# Altium integrated library Infineon_Microcontroller.IntLib: 721 symbols (part 38 of 66)
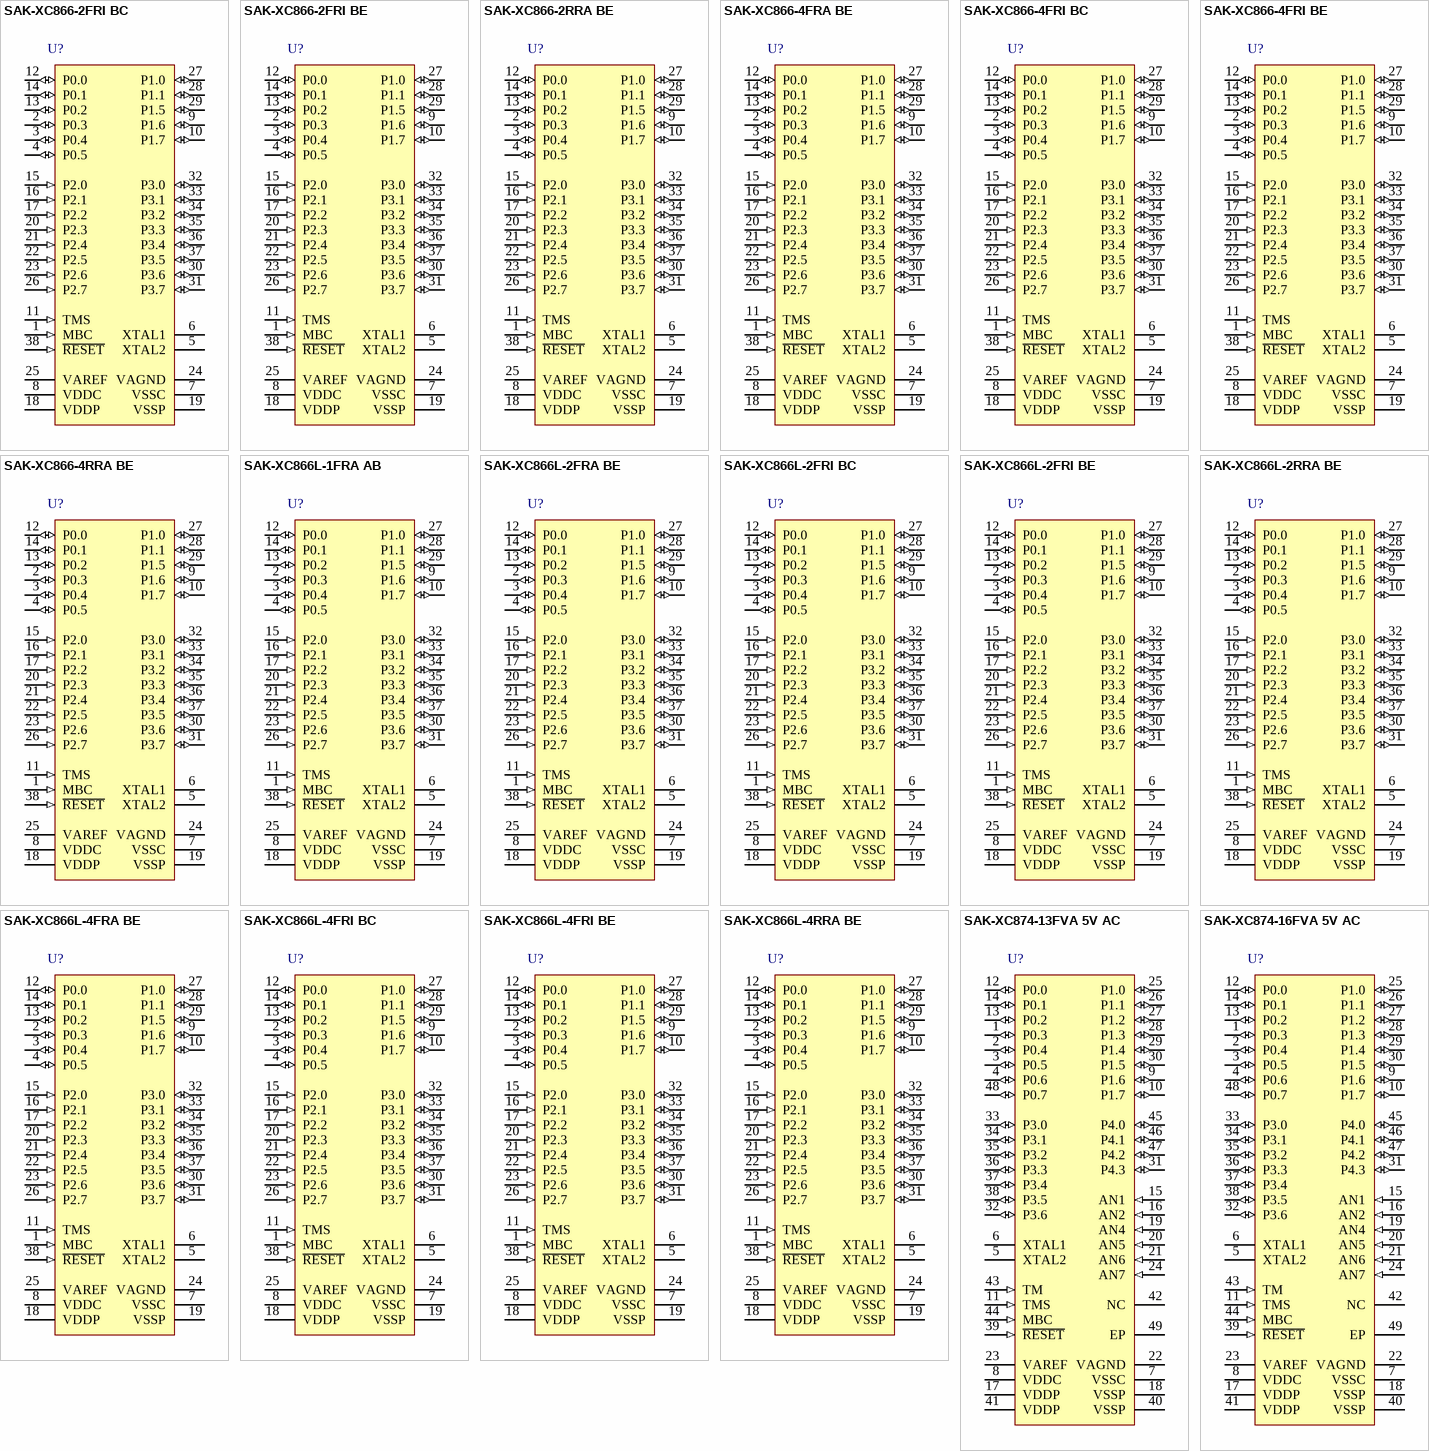
[diagram p155: symbols SAK-XC866-2FRI BC to SAK-XC874-16FVA 5V AC]

## SAK-XC874-13FVA 5V AC
designator U?
26.7 MHz XC800-Automotive MCU with 52 KByte Program Memory, 3 KByte SRAM, 5 V, PG-VQFN-48, Reel, Green; Manufacturer: Infineon; PartNumber: SAK-XC874-13FVA 5V AC; A / D input lines (incl. FADC): 8; CAN Nodes: 0; Digital I/O Lines: 39; DSP functionality (e.g MDU/MAC): TRUE; I/O Operation Voltages: 5 V; LIN BSL loader (for fast Flash programming): FALSE; Number of ADC Modules: 1; Power Modes: 4; Real Time Clock (RTC): FALSE; SRAM (incl. Cache): 3 KByte; Type of Memory: Flash; Type of Serial I/O Interfaces: UART(2), SCC(1); DatasheetVersion: Rev. 1.5; PackageVersion: Nov-10; PackageReference: PG-VQFN-48-22; PackageDescription: 48-Pin Plastic (Green) Very Thin Profile Quad Flat Non Leaded Package, Body 6.8 x 6.8 mm, Pitch 0.5 mm; DMA Channels: 0; E2PROM Emulation (Data-Flash): TRUE; Green: TRUE; Halogen-free: TRUE; Instruction width [bits]: 8; Max Clock Frequency: 26.7 MHz; On-chip clock generation: TRUE; On-chip Voltage Regulator: TRUE; Oscillator Watchdog: TRUE; Packing: Reel; Program Memory: 52 KByte; Serial I/O Interfaces: 0; Timed I/O Pins (PWM-Ch,CAPCOM): 0; Timer / Counter: 4; Watchdog Timer: TRUE; Mounting Technology: Surface Mount; ComponentLink1Description: Manufacturer URL; ComponentLink1URL: http://www.infineon.com/; ComponentLink2Description: Datasheet; ComponentLink2URL: http://www.infineon.com/dgdl/Microcontroller-XC87x-Data-Sheet-V15-infineon.pdf?folderId=db3a304412b407950112b40c497b0af6&fileId=db3a30432239cccd01231293d56908b1; ComponentLink3Description: Package Specification; ComponentLink3URL: http://www.infineon.com/dgdl/PG-VQFN-48-15%2C-19%2C-20%2C-22%2C-24%2C-48%2C-51%2C-52%2C-53%2C-54%2C-55%2C-56%2C-57-Package_Overview.pdf?folderId=db3a304319c6f18c0119e80a8f2559bf&fileId=db3a304319c6f18c011a0b8b18c33200
footprint INF-PG-VQFN-48-22_N (QFN, 48-Leads, Body 6.8x6.8mm, Pitch 0.5mm, Thermal Pad 5.2x5.2mm, IPC Medium Density)
footprint INF-PG-VQFN-48-22_L (QFN, 48-Leads, Body 6.8x6.8mm, Pitch 0.5mm, Thermal Pad 5.2x5.2mm, IPC High Density)
footprint INF-PG-VQFN-48-22_M (QFN, 48-Leads, Body 6.8x6.8mm, Pitch 0.5mm, Thermal Pad 5.2x5.2mm, IPC Low Density)
pins: 1 P0.3 (io), 2 P0.4 (io), 3 P0.5 (io), 4 P0.6 (io), 5 XTAL2 "External Oscillator Output (Feedback resistor required, normally NC)", 6 XTAL1 "External Oscillator Input (Feedback resistor required, normally NC)", 7 VSSC (power) "Core Supply Ground", 8 VDDC (power) "Core Supply Monitor (2.5 V)", 9 P1.6 (io), 10 P1.7 (io), 11 TMS (in) "JTAG Test Mode Select", 12 P0.0 (io), 13 P0.2 (io), 14 P0.1 (io), 15 AN1 (in) "Analog Input 1", 16 AN2 (in) "Analog Input 2", 17 VDDP (power) "I/O Port Supply (3.3 or 5.0 V) Also used by EVR and analog modules. All pins must be connected.", 18 VSSP (power) "I/O Ground All pins must be connected.", 19 AN4 (in) "Analog Input 4", 20 AN5 (in) "Analog Input 5", 21 AN6 (in) "Analog Input 6", 22 VAGND (power) "ADC Reference Ground", 23 VAREF (power) "ADC Reference Voltage", 24 AN7 (in) "Analog Input 7", 25 P1.0 (io), 26 P1.1 (io), 27 P1.2 (io), 28 P1.3 (io), 29 P1.4 (io), 30 P1.5 (io), 31 P4.3 (io), 32 P3.6 (io), 33 P3.0 (io), 34 P3.1 (io), 35 P3.2 (io), 36 P3.3 (io), 37 P3.4 (io), 38 P3.5 (io), 39 ~{RESET} (in) "Reset Input", 40 VSSP (power) "I/O Ground All pins must be connected.", 41 VDDP (power) "I/O Port Supply (3.3 or 5.0 V) Also used by EVR and analog modules. All pins must be connected.", 42 NC "No Connection", 43 TM (in) "Test Mode (External pull down device required)", 44 MBC (in) "Monitor & BootStrap Loader Control", 45 P4.0 (io), 46 P4.1 (io), 47 P4.2 (io), 48 P0.7 (io), 49 EP "Exposed Pad"

## SAK-XC874-16FVA 5V AC
designator U?
26.7 MHz XC800-Automotive MCU with 64 KByte Program Memory, 3 KByte SRAM, 5 V, PG-VQFN-48, Reel, Green; Manufacturer: Infineon; PartNumber: SAK-XC874-16FVA 5V AC; A / D input lines (incl. FADC): 8; CAN Nodes: 0; Digital I/O Lines: 39; DSP functionality (e.g MDU/MAC): TRUE; I/O Operation Voltages: 5 V; LIN BSL loader (for fast Flash programming): FALSE; Number of ADC Modules: 1; Power Modes: 4; Real Time Clock (RTC): FALSE; SRAM (incl. Cache): 3 KByte; Type of Memory: Flash; Type of Serial I/O Interfaces: UART(2), SCC(1); DatasheetVersion: Rev. 1.5; PackageVersion: Nov-10; PackageReference: PG-VQFN-48-22; PackageDescription: 48-Pin Plastic (Green) Very Thin Profile Quad Flat Non Leaded Package, Body 6.8 x 6.8 mm, Pitch 0.5 mm; DMA Channels: 0; E2PROM Emulation (Data-Flash): TRUE; Green: TRUE; Halogen-free: TRUE; Instruction width [bits]: 8; Max Clock Frequency: 26.7 MHz; On-chip clock generation: TRUE; On-chip Voltage Regulator: TRUE; Oscillator Watchdog: TRUE; Packing: Reel; Program Memory: 64 KByte; Serial I/O Interfaces: 0; Timed I/O Pins (PWM-Ch,CAPCOM): 0; Timer / Counter: 4; Watchdog Timer: TRUE; Mounting Technology: Surface Mount; ComponentLink1Description: Manufacturer URL; ComponentLink1URL: http://www.infineon.com/; ComponentLink2Description: Datasheet; ComponentLink2URL: http://www.infineon.com/dgdl/Microcontroller-XC87x-Data-Sheet-V15-infineon.pdf?folderId=db3a304412b407950112b40c497b0af6&fileId=db3a30432239cccd01231293d56908b1; ComponentLink3Description: Package Specification; ComponentLink3URL: http://www.infineon.com/dgdl/PG-VQFN-48-15%2C-19%2C-20%2C-22%2C-24%2C-48%2C-51%2C-52%2C-53%2C-54%2C-55%2C-56%2C-57-Package_Overview.pdf?folderId=db3a304319c6f18c0119e80a8f2559bf&fileId=db3a304319c6f18c011a0b8b18c33200
footprint INF-PG-VQFN-48-22_N (QFN, 48-Leads, Body 6.8x6.8mm, Pitch 0.5mm, Thermal Pad 5.2x5.2mm, IPC Medium Density)
footprint INF-PG-VQFN-48-22_L (QFN, 48-Leads, Body 6.8x6.8mm, Pitch 0.5mm, Thermal Pad 5.2x5.2mm, IPC High Density)
footprint INF-PG-VQFN-48-22_M (QFN, 48-Leads, Body 6.8x6.8mm, Pitch 0.5mm, Thermal Pad 5.2x5.2mm, IPC Low Density)
pins: 1 P0.3 (io), 2 P0.4 (io), 3 P0.5 (io), 4 P0.6 (io), 5 XTAL2 "External Oscillator Output (Feedback resistor required, normally NC)", 6 XTAL1 "External Oscillator Input (Feedback resistor required, normally NC)", 7 VSSC (power) "Core Supply Ground", 8 VDDC (power) "Core Supply Monitor (2.5 V)", 9 P1.6 (io), 10 P1.7 (io), 11 TMS (in) "JTAG Test Mode Select", 12 P0.0 (io), 13 P0.2 (io), 14 P0.1 (io), 15 AN1 (in) "Analog Input 1", 16 AN2 (in) "Analog Input 2", 17 VDDP (power) "I/O Port Supply (3.3 or 5.0 V) Also used by EVR and analog modules. All pins must be connected.", 18 VSSP (power) "I/O Ground All pins must be connected.", 19 AN4 (in) "Analog Input 4", 20 AN5 (in) "Analog Input 5", 21 AN6 (in) "Analog Input 6", 22 VAGND (power) "ADC Reference Ground", 23 VAREF (power) "ADC Reference Voltage", 24 AN7 (in) "Analog Input 7", 25 P1.0 (io), 26 P1.1 (io), 27 P1.2 (io), 28 P1.3 (io), 29 P1.4 (io), 30 P1.5 (io), 31 P4.3 (io), 32 P3.6 (io), 33 P3.0 (io), 34 P3.1 (io), 35 P3.2 (io), 36 P3.3 (io), 37 P3.4 (io), 38 P3.5 (io), 39 ~{RESET} (in) "Reset Input", 40 VSSP (power) "I/O Ground All pins must be connected.", 41 VDDP (power) "I/O Port Supply (3.3 or 5.0 V) Also used by EVR and analog modules. All pins must be connected.", 42 NC "No Connection", 43 TM (in) "Test Mode (External pull down device required)", 44 MBC (in) "Monitor & BootStrap Loader Control", 45 P4.0 (io), 46 P4.1 (io), 47 P4.2 (io), 48 P0.7 (io), 49 EP "Exposed Pad"

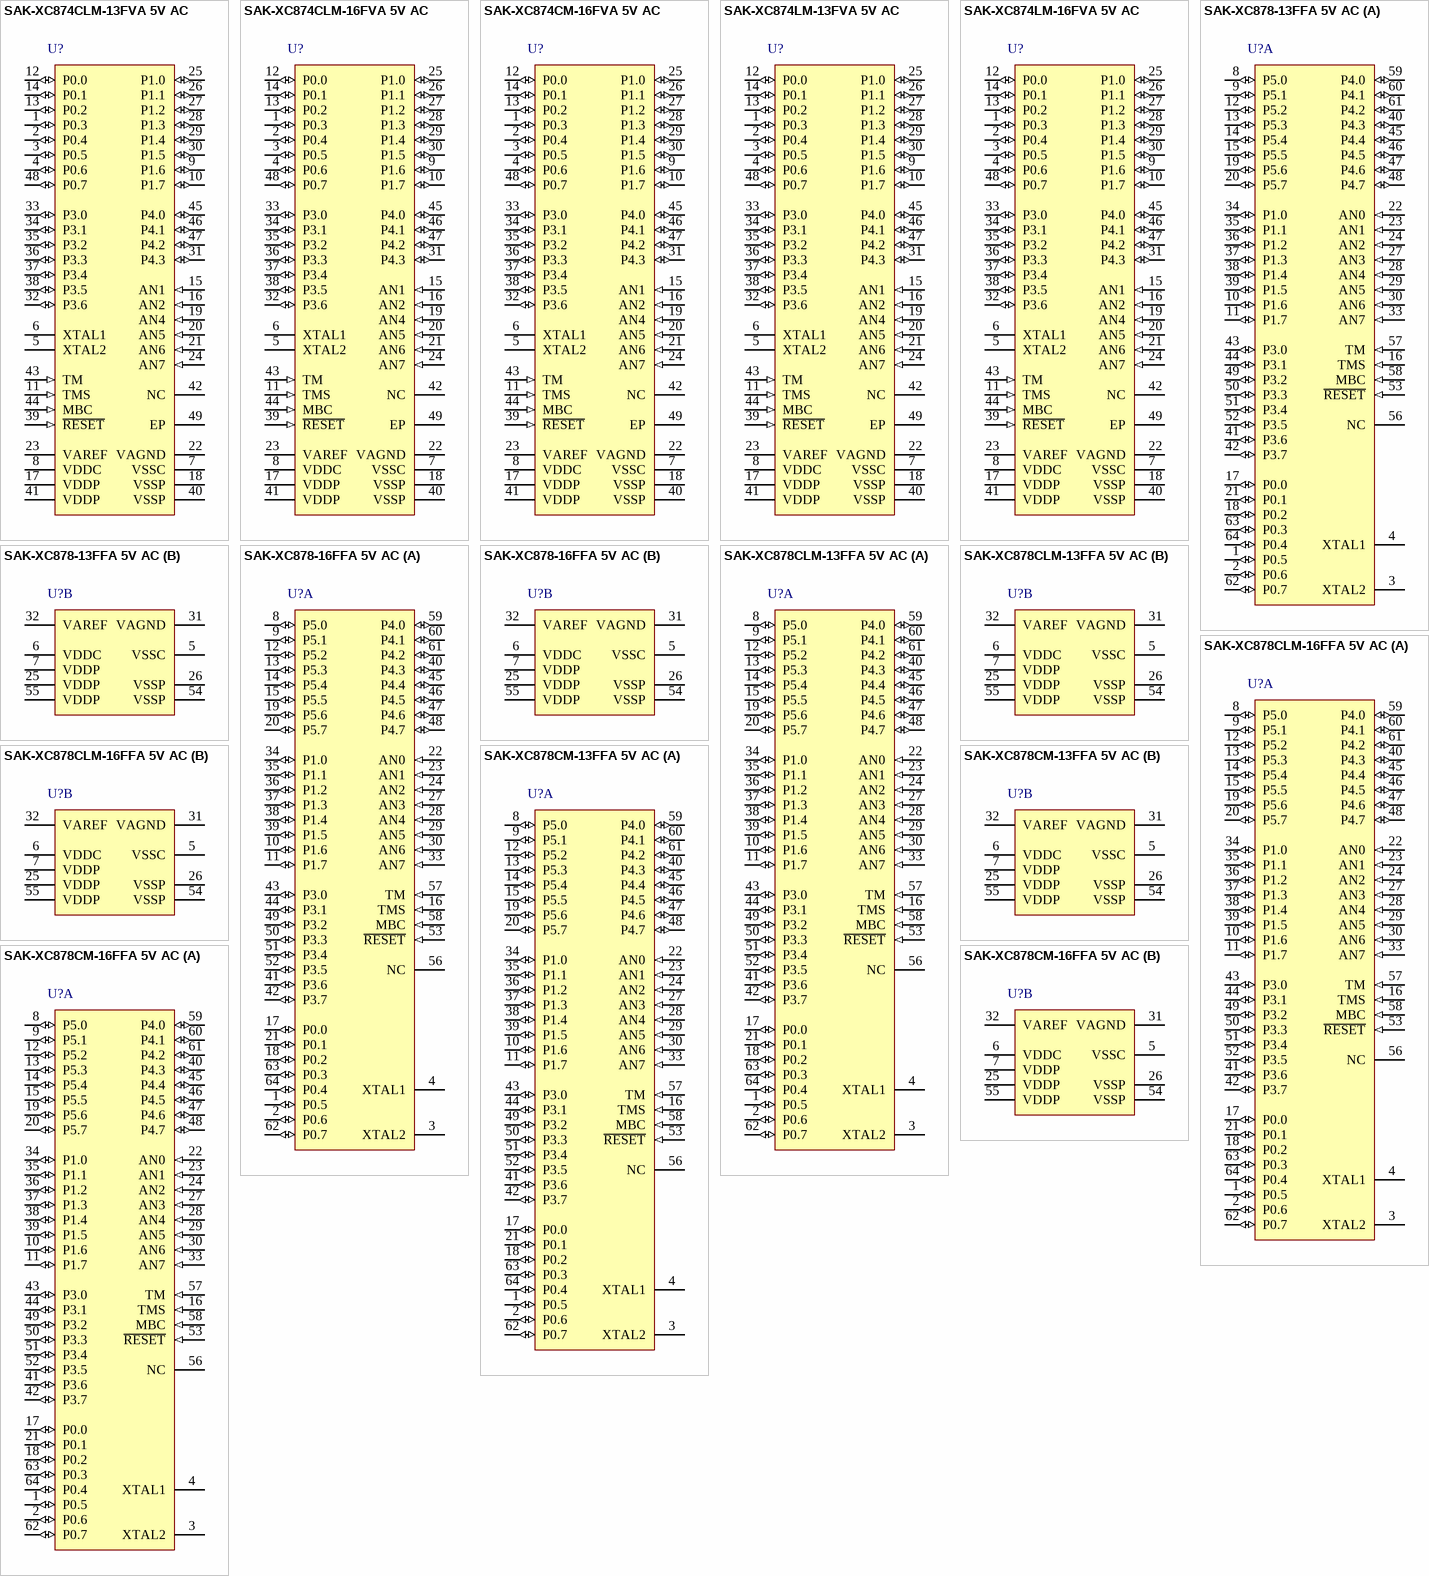
[diagram p68: symbols SAK-XC874CLM-13FVA 5V AC to SAK-XC878CM-16FFA 5V AC]

## SAK-XC874CLM-13FVA 5V AC
designator U?
26.7 MHz XC800-Automotive MCU with 52 KByte Program Memory, 3 KByte SRAM, 5 V, PG-VQFN-48, Green; Manufacturer: Infineon; PartNumber: SAK-XC874CLM-13FVA 5V AC; A / D input lines (incl. FADC): 8; CAN Nodes: 2; Digital I/O Lines: 39; DMA Channels: 0; DSP functionality (e.g MDU/MAC): TRUE; I/O Operation Voltages: 5 V; LIN BSL loader (for fast Flash programming): FALSE; Number of ADC Modules: 1; Power Modes: 4; Real Time Clock (RTC): FALSE; SRAM (incl. Cache): 3 KByte; Type of Memory: Flash; Type of Serial I/O Interfaces: UART(2), SCC(1); DatasheetVersion: Rev. 1.5; PackageVersion: Nov-10; PackageReference: PG-VQFN-48-22; PackageDescription: 48-Pin Plastic (Green) Very Thin Profile Quad Flat Non Leaded Package, Body 6.8 x 6.8 mm, Pitch 0.5 mm; E2PROM Emulation (Data-Flash): TRUE; Green: TRUE; Halogen-free: available; Instruction width [bits]: 8; Max Clock Frequency: 26.7 MHz; On-chip clock generation: TRUE; On-chip Voltage Regulator: TRUE; Oscillator Watchdog: TRUE; Program Memory: 52 KByte; Serial I/O Interfaces: 0; Timed I/O Pins (PWM-Ch,CAPCOM): 0; Timer / Counter: 4; Watchdog Timer: TRUE; Mounting Technology: Surface Mount; ComponentLink1Description: Manufacturer URL; ComponentLink1URL: http://www.infineon.com/; ComponentLink2Description: Datasheet; ComponentLink2URL: http://www.infineon.com/dgdl/Microcontroller-XC87x-Data-Sheet-V15-infineon.pdf?folderId=db3a304412b407950112b40c497b0af6&fileId=db3a30432239cccd01231293d56908b1; ComponentLink3Description: Package Specification; ComponentLink3URL: http://www.infineon.com/dgdl/PG-VQFN-48-15%2C-19%2C-20%2C-22%2C-24%2C-48%2C-51%2C-52%2C-53%2C-54%2C-55%2C-56%2C-57-Package_Overview.pdf?folderId=db3a304319c6f18c0119e80a8f2559bf&fileId=db3a304319c6f18c011a0b8b18c33200
footprint INF-PG-VQFN-48-22_N (QFN, 48-Leads, Body 6.8x6.8mm, Pitch 0.5mm, Thermal Pad 5.2x5.2mm, IPC Medium Density)
footprint INF-PG-VQFN-48-22_L (QFN, 48-Leads, Body 6.8x6.8mm, Pitch 0.5mm, Thermal Pad 5.2x5.2mm, IPC High Density)
footprint INF-PG-VQFN-48-22_M (QFN, 48-Leads, Body 6.8x6.8mm, Pitch 0.5mm, Thermal Pad 5.2x5.2mm, IPC Low Density)
pins: 1 P0.3 (io), 2 P0.4 (io), 3 P0.5 (io), 4 P0.6 (io), 5 XTAL2 "External Oscillator Output (Feedback resistor required, normally NC)", 6 XTAL1 "External Oscillator Input (Feedback resistor required, normally NC)", 7 VSSC (power) "Core Supply Ground", 8 VDDC (power) "Core Supply Monitor (2.5 V)", 9 P1.6 (io), 10 P1.7 (io), 11 TMS (in) "JTAG Test Mode Select", 12 P0.0 (io), 13 P0.2 (io), 14 P0.1 (io), 15 AN1 (in) "Analog Input 1", 16 AN2 (in) "Analog Input 2", 17 VDDP (power) "I/O Port Supply (3.3 or 5.0 V) Also used by EVR and analog modules. All pins must be connected.", 18 VSSP (power) "I/O Ground All pins must be connected.", 19 AN4 (in) "Analog Input 4", 20 AN5 (in) "Analog Input 5", 21 AN6 (in) "Analog Input 6", 22 VAGND (power) "ADC Reference Ground", 23 VAREF (power) "ADC Reference Voltage", 24 AN7 (in) "Analog Input 7", 25 P1.0 (io), 26 P1.1 (io), 27 P1.2 (io), 28 P1.3 (io), 29 P1.4 (io), 30 P1.5 (io), 31 P4.3 (io), 32 P3.6 (io), 33 P3.0 (io), 34 P3.1 (io), 35 P3.2 (io), 36 P3.3 (io), 37 P3.4 (io), 38 P3.5 (io), 39 ~{RESET} (in) "Reset Input", 40 VSSP (power) "I/O Ground All pins must be connected.", 41 VDDP (power) "I/O Port Supply (3.3 or 5.0 V) Also used by EVR and analog modules. All pins must be connected.", 42 NC "No Connection", 43 TM (in) "Test Mode (External pull down device required)", 44 MBC (in) "Monitor & BootStrap Loader Control", 45 P4.0 (io), 46 P4.1 (io), 47 P4.2 (io), 48 P0.7 (io), 49 EP "Exposed Pad"

## SAK-XC874CLM-16FVA 5V AC
designator U?
26.7 MHz XC800-Automotive MCU with 64 KByte Program Memory, 3 KByte SRAM, 5 V, PG-VQFN-48, Reel, Green; Manufacturer: Infineon; PartNumber: SAK-XC874CLM-16FVA 5V AC; A / D input lines (incl. FADC): 8; CAN Nodes: 2; Digital I/O Lines: 39; DMA Channels: 0; DSP functionality (e.g MDU/MAC): TRUE; I/O Operation Voltages: 5 V; LIN BSL loader (for fast Flash programming): FALSE; Number of ADC Modules: 1; Power Modes: 4; Real Time Clock (RTC): FALSE; SRAM (incl. Cache): 3 KByte; Type of Memory: Flash; Type of Serial I/O Interfaces: UART(2), SCC(1); DatasheetVersion: Rev. 1.5; PackageVersion: Nov-10; PackageReference: PG-VQFN-48-22; PackageDescription: 48-Pin Plastic (Green) Very Thin Profile Quad Flat Non Leaded Package, Body 6.8 x 6.8 mm, Pitch 0.5 mm; Supplier 1: Digi-Key; Supplier Part Number 1: SAK-XC874CLM-16FVA 5V AC-ND; E2PROM Emulation (Data-Flash): TRUE; Green: TRUE; Halogen-free: TRUE; Instruction width [bits]: 8; Max Clock Frequency: 26.7 MHz; On-chip clock generation: TRUE; On-chip Voltage Regulator: TRUE; Oscillator Watchdog: TRUE; Packing: Reel; Program Memory: 64 KByte; Serial I/O Interfaces: 0; Timed I/O Pins (PWM-Ch,CAPCOM): 0; Timer / Counter: 4; Watchdog Timer: TRUE; Mounting Technology: Surface Mount; ComponentLink1Description: Manufacturer URL; ComponentLink1URL: http://www.infineon.com/; ComponentLink2Description: Datasheet; ComponentLink2URL: http://www.infineon.com/dgdl/Microcontroller-XC87x-Data-Sheet-V15-infineon.pdf?folderId=db3a304412b407950112b40c497b0af6&fileId=db3a30432239cccd01231293d56908b1; ComponentLink3Description: Package Specification; ComponentLink3URL: http://www.infineon.com/dgdl/PG-VQFN-48-15%2C-19%2C-20%2C-22%2C-24%2C-48%2C-51%2C-52%2C-53%2C-54%2C-55%2C-56%2C-57-Package_Overview.pdf?folderId=db3a304319c6f18c0119e80a8f2559bf&fileId=db3a304319c6f18c011a0b8b18c33200
footprint INF-PG-VQFN-48-22_N (QFN, 48-Leads, Body 6.8x6.8mm, Pitch 0.5mm, Thermal Pad 5.2x5.2mm, IPC Medium Density)
footprint INF-PG-VQFN-48-22_L (QFN, 48-Leads, Body 6.8x6.8mm, Pitch 0.5mm, Thermal Pad 5.2x5.2mm, IPC High Density)
footprint INF-PG-VQFN-48-22_M (QFN, 48-Leads, Body 6.8x6.8mm, Pitch 0.5mm, Thermal Pad 5.2x5.2mm, IPC Low Density)
pins: 1 P0.3 (io), 2 P0.4 (io), 3 P0.5 (io), 4 P0.6 (io), 5 XTAL2 "External Oscillator Output (Feedback resistor required, normally NC)", 6 XTAL1 "External Oscillator Input (Feedback resistor required, normally NC)", 7 VSSC (power) "Core Supply Ground", 8 VDDC (power) "Core Supply Monitor (2.5 V)", 9 P1.6 (io), 10 P1.7 (io), 11 TMS (in) "JTAG Test Mode Select", 12 P0.0 (io), 13 P0.2 (io), 14 P0.1 (io), 15 AN1 (in) "Analog Input 1", 16 AN2 (in) "Analog Input 2", 17 VDDP (power) "I/O Port Supply (3.3 or 5.0 V) Also used by EVR and analog modules. All pins must be connected.", 18 VSSP (power) "I/O Ground All pins must be connected.", 19 AN4 (in) "Analog Input 4", 20 AN5 (in) "Analog Input 5", 21 AN6 (in) "Analog Input 6", 22 VAGND (power) "ADC Reference Ground", 23 VAREF (power) "ADC Reference Voltage", 24 AN7 (in) "Analog Input 7", 25 P1.0 (io), 26 P1.1 (io), 27 P1.2 (io), 28 P1.3 (io), 29 P1.4 (io), 30 P1.5 (io), 31 P4.3 (io), 32 P3.6 (io), 33 P3.0 (io), 34 P3.1 (io), 35 P3.2 (io), 36 P3.3 (io), 37 P3.4 (io), 38 P3.5 (io), 39 ~{RESET} (in) "Reset Input", 40 VSSP (power) "I/O Ground All pins must be connected.", 41 VDDP (power) "I/O Port Supply (3.3 or 5.0 V) Also used by EVR and analog modules. All pins must be connected.", 42 NC "No Connection", 43 TM (in) "Test Mode (External pull down device required)", 44 MBC (in) "Monitor & BootStrap Loader Control", 45 P4.0 (io), 46 P4.1 (io), 47 P4.2 (io), 48 P0.7 (io), 49 EP "Exposed Pad"

## SAK-XC874CM-16FVA 5V AC
designator U?
26.7 MHz XC800-Automotive MCU with 64 KByte Program Memory, 3 KByte SRAM, 5 V, PG-VQFN-48, Reel, Green; Manufacturer: Infineon; PartNumber: SAK-XC874CM-16FVA 5V AC; A / D input lines (incl. FADC): 8; CAN Nodes: 2; Digital I/O Lines: 39; DMA Channels: 0; DSP functionality (e.g MDU/MAC): TRUE; I/O Operation Voltages: 5 V; LIN BSL loader (for fast Flash programming): FALSE; Number of ADC Modules: 1; Power Modes: 4; Real Time Clock (RTC): FALSE; SRAM (incl. Cache): 3 KByte; Type of Memory: Flash; Type of Serial I/O Interfaces: UART(2), SCC(1); DatasheetVersion: Rev. 1.5; PackageVersion: Nov-10; PackageReference: PG-VQFN-48-22; PackageDescription: 48-Pin Plastic (Green) Very Thin Profile Quad Flat Non Leaded Package, Body 6.8 x 6.8 mm, Pitch 0.5 mm; E2PROM Emulation (Data-Flash): TRUE; Green: TRUE; Halogen-free: TRUE; Instruction width [bits]: 8; Max Clock Frequency: 26.7 MHz; On-chip clock generation: TRUE; On-chip Voltage Regulator: TRUE; Oscillator Watchdog: TRUE; Packing: Reel; Program Memory: 64 KByte; Serial I/O Interfaces: 0; Timed I/O Pins (PWM-Ch,CAPCOM): 0; Timer / Counter: 4; Watchdog Timer: TRUE; Mounting Technology: Surface Mount; ComponentLink1Description: Manufacturer URL; ComponentLink1URL: http://www.infineon.com/; ComponentLink2Description: Datasheet; ComponentLink2URL: http://www.infineon.com/dgdl/Microcontroller-XC87x-Data-Sheet-V15-infineon.pdf?folderId=db3a304412b407950112b40c497b0af6&fileId=db3a30432239cccd01231293d56908b1; ComponentLink3Description: Package Specification; ComponentLink3URL: http://www.infineon.com/dgdl/PG-VQFN-48-15%2C-19%2C-20%2C-22%2C-24%2C-48%2C-51%2C-52%2C-53%2C-54%2C-55%2C-56%2C-57-Package_Overview.pdf?folderId=db3a304319c6f18c0119e80a8f2559bf&fileId=db3a304319c6f18c011a0b8b18c33200
footprint INF-PG-VQFN-48-22_N (QFN, 48-Leads, Body 6.8x6.8mm, Pitch 0.5mm, Thermal Pad 5.2x5.2mm, IPC Medium Density)
footprint INF-PG-VQFN-48-22_L (QFN, 48-Leads, Body 6.8x6.8mm, Pitch 0.5mm, Thermal Pad 5.2x5.2mm, IPC High Density)
footprint INF-PG-VQFN-48-22_M (QFN, 48-Leads, Body 6.8x6.8mm, Pitch 0.5mm, Thermal Pad 5.2x5.2mm, IPC Low Density)
pins: 1 P0.3 (io), 2 P0.4 (io), 3 P0.5 (io), 4 P0.6 (io), 5 XTAL2 "External Oscillator Output (Feedback resistor required, normally NC)", 6 XTAL1 "External Oscillator Input (Feedback resistor required, normally NC)", 7 VSSC (power) "Core Supply Ground", 8 VDDC (power) "Core Supply Monitor (2.5 V)", 9 P1.6 (io), 10 P1.7 (io), 11 TMS (in) "JTAG Test Mode Select", 12 P0.0 (io), 13 P0.2 (io), 14 P0.1 (io), 15 AN1 (in) "Analog Input 1", 16 AN2 (in) "Analog Input 2", 17 VDDP (power) "I/O Port Supply (3.3 or 5.0 V) Also used by EVR and analog modules. All pins must be connected.", 18 VSSP (power) "I/O Ground All pins must be connected.", 19 AN4 (in) "Analog Input 4", 20 AN5 (in) "Analog Input 5", 21 AN6 (in) "Analog Input 6", 22 VAGND (power) "ADC Reference Ground", 23 VAREF (power) "ADC Reference Voltage", 24 AN7 (in) "Analog Input 7", 25 P1.0 (io), 26 P1.1 (io), 27 P1.2 (io), 28 P1.3 (io), 29 P1.4 (io), 30 P1.5 (io), 31 P4.3 (io), 32 P3.6 (io), 33 P3.0 (io), 34 P3.1 (io), 35 P3.2 (io), 36 P3.3 (io), 37 P3.4 (io), 38 P3.5 (io), 39 ~{RESET} (in) "Reset Input", 40 VSSP (power) "I/O Ground All pins must be connected.", 41 VDDP (power) "I/O Port Supply (3.3 or 5.0 V) Also used by EVR and analog modules. All pins must be connected.", 42 NC "No Connection", 43 TM (in) "Test Mode (External pull down device required)", 44 MBC (in) "Monitor & BootStrap Loader Control", 45 P4.0 (io), 46 P4.1 (io), 47 P4.2 (io), 48 P0.7 (io), 49 EP "Exposed Pad"

## SAK-XC874LM-13FVA 5V AC
designator U?
26.7 MHz XC800-Automotive MCU with 52 KByte Program Memory, 3 KByte SRAM, 5 V, PG-VQFN-48, Reel, Green; Manufacturer: Infineon; PartNumber: SAK-XC874LM-13FVA 5V AC; A / D input lines (incl. FADC): 8; CAN Nodes: 0; Digital I/O Lines: 39; DSP functionality (e.g MDU/MAC): TRUE; I/O Operation Voltages: 5 V; LIN BSL loader (for fast Flash programming): FALSE; Number of ADC Modules: 1; Power Modes: 4; Real Time Clock (RTC): FALSE; SRAM (incl. Cache): 3 KByte; Type of Memory: Flash; Type of Serial I/O Interfaces: UART(2), SCC(1); DatasheetVersion: Rev. 1.5; PackageVersion: Nov-10; PackageReference: PG-VQFN-48-22; PackageDescription: 48-Pin Plastic (Green) Very Thin Profile Quad Flat Non Leaded Package, Body 6.8 x 6.8 mm, Pitch 0.5 mm; DMA Channels: 0; E2PROM Emulation (Data-Flash): TRUE; Green: TRUE; Halogen-free: TRUE; Instruction width [bits]: 8; Max Clock Frequency: 26.7 MHz; On-chip clock generation: TRUE; On-chip Voltage Regulator: TRUE; Oscillator Watchdog: TRUE; Packing: Reel; Program Memory: 52 KByte; Serial I/O Interfaces: 0; Timed I/O Pins (PWM-Ch,CAPCOM): 0; Timer / Counter: 4; Watchdog Timer: TRUE; Mounting Technology: Surface Mount; ComponentLink1Description: Manufacturer URL; ComponentLink1URL: http://www.infineon.com/; ComponentLink2Description: Datasheet; ComponentLink2URL: http://www.infineon.com/dgdl/Microcontroller-XC87x-Data-Sheet-V15-infineon.pdf?folderId=db3a304412b407950112b40c497b0af6&fileId=db3a30432239cccd01231293d56908b1; ComponentLink3Description: Package Specification; ComponentLink3URL: http://www.infineon.com/dgdl/PG-VQFN-48-15%2C-19%2C-20%2C-22%2C-24%2C-48%2C-51%2C-52%2C-53%2C-54%2C-55%2C-56%2C-57-Package_Overview.pdf?folderId=db3a304319c6f18c0119e80a8f2559bf&fileId=db3a304319c6f18c011a0b8b18c33200
footprint INF-PG-VQFN-48-22_N (QFN, 48-Leads, Body 6.8x6.8mm, Pitch 0.5mm, Thermal Pad 5.2x5.2mm, IPC Medium Density)
footprint INF-PG-VQFN-48-22_L (QFN, 48-Leads, Body 6.8x6.8mm, Pitch 0.5mm, Thermal Pad 5.2x5.2mm, IPC High Density)
footprint INF-PG-VQFN-48-22_M (QFN, 48-Leads, Body 6.8x6.8mm, Pitch 0.5mm, Thermal Pad 5.2x5.2mm, IPC Low Density)
pins: 1 P0.3 (io), 2 P0.4 (io), 3 P0.5 (io), 4 P0.6 (io), 5 XTAL2 "External Oscillator Output (Feedback resistor required, normally NC)", 6 XTAL1 "External Oscillator Input (Feedback resistor required, normally NC)", 7 VSSC (power) "Core Supply Ground", 8 VDDC (power) "Core Supply Monitor (2.5 V)", 9 P1.6 (io), 10 P1.7 (io), 11 TMS (in) "JTAG Test Mode Select", 12 P0.0 (io), 13 P0.2 (io), 14 P0.1 (io), 15 AN1 (in) "Analog Input 1", 16 AN2 (in) "Analog Input 2", 17 VDDP (power) "I/O Port Supply (3.3 or 5.0 V) Also used by EVR and analog modules. All pins must be connected.", 18 VSSP (power) "I/O Ground All pins must be connected.", 19 AN4 (in) "Analog Input 4", 20 AN5 (in) "Analog Input 5", 21 AN6 (in) "Analog Input 6", 22 VAGND (power) "ADC Reference Ground", 23 VAREF (power) "ADC Reference Voltage", 24 AN7 (in) "Analog Input 7", 25 P1.0 (io), 26 P1.1 (io), 27 P1.2 (io), 28 P1.3 (io), 29 P1.4 (io), 30 P1.5 (io), 31 P4.3 (io), 32 P3.6 (io), 33 P3.0 (io), 34 P3.1 (io), 35 P3.2 (io), 36 P3.3 (io), 37 P3.4 (io), 38 P3.5 (io), 39 ~{RESET} (in) "Reset Input", 40 VSSP (power) "I/O Ground All pins must be connected.", 41 VDDP (power) "I/O Port Supply (3.3 or 5.0 V) Also used by EVR and analog modules. All pins must be connected.", 42 NC "No Connection", 43 TM (in) "Test Mode (External pull down device required)", 44 MBC (in) "Monitor & BootStrap Loader Control", 45 P4.0 (io), 46 P4.1 (io), 47 P4.2 (io), 48 P0.7 (io), 49 EP "Exposed Pad"

## SAK-XC874LM-16FVA 5V AC
designator U?
26.7 MHz XC800-Automotive MCU with 64 KByte Program Memory, 3 KByte SRAM, 5 V, PG-VQFN-48, Reel, Green; Manufacturer: Infineon; PartNumber: SAK-XC874LM-16FVA 5V AC; A / D input lines (incl. FADC): 8; CAN Nodes: 0; Digital I/O Lines: 39; DSP functionality (e.g MDU/MAC): TRUE; I/O Operation Voltages: 5 V; LIN BSL loader (for fast Flash programming): FALSE; Number of ADC Modules: 1; Power Modes: 4; Real Time Clock (RTC): FALSE; SRAM (incl. Cache): 3 KByte; Type of Memory: Flash; Type of Serial I/O Interfaces: UART(2), SCC(1); DatasheetVersion: Rev. 1.5; PackageVersion: Nov-10; PackageReference: PG-VQFN-48-22; PackageDescription: 48-Pin Plastic (Green) Very Thin Profile Quad Flat Non Leaded Package, Body 6.8 x 6.8 mm, Pitch 0.5 mm; Supplier 1: Digi-Key; Supplier Part Number 1: SAK-XC874LM-16FVA 5V AC-ND; DMA Channels: 0; E2PROM Emulation (Data-Flash): TRUE; Green: TRUE; Halogen-free: TRUE; Instruction width [bits]: 8; Max Clock Frequency: 26.7 MHz; On-chip clock generation: TRUE; On-chip Voltage Regulator: TRUE; Oscillator Watchdog: TRUE; Packing: Reel; Program Memory: 64 KByte; Serial I/O Interfaces: 0; Timed I/O Pins (PWM-Ch,CAPCOM): 0; Timer / Counter: 4; Watchdog Timer: TRUE; Mounting Technology: Surface Mount; ComponentLink1Description: Manufacturer URL; ComponentLink1URL: http://www.infineon.com/; ComponentLink2Description: Datasheet; ComponentLink2URL: http://www.infineon.com/dgdl/Microcontroller-XC87x-Data-Sheet-V15-infineon.pdf?folderId=db3a304412b407950112b40c497b0af6&fileId=db3a30432239cccd01231293d56908b1; ComponentLink3Description: Package Specification; ComponentLink3URL: http://www.infineon.com/dgdl/PG-VQFN-48-15%2C-19%2C-20%2C-22%2C-24%2C-48%2C-51%2C-52%2C-53%2C-54%2C-55%2C-56%2C-57-Package_Overview.pdf?folderId=db3a304319c6f18c0119e80a8f2559bf&fileId=db3a304319c6f18c011a0b8b18c33200
footprint INF-PG-VQFN-48-22_N (QFN, 48-Leads, Body 6.8x6.8mm, Pitch 0.5mm, Thermal Pad 5.2x5.2mm, IPC Medium Density)
footprint INF-PG-VQFN-48-22_L (QFN, 48-Leads, Body 6.8x6.8mm, Pitch 0.5mm, Thermal Pad 5.2x5.2mm, IPC High Density)
footprint INF-PG-VQFN-48-22_M (QFN, 48-Leads, Body 6.8x6.8mm, Pitch 0.5mm, Thermal Pad 5.2x5.2mm, IPC Low Density)
pins: 1 P0.3 (io), 2 P0.4 (io), 3 P0.5 (io), 4 P0.6 (io), 5 XTAL2 "External Oscillator Output (Feedback resistor required, normally NC)", 6 XTAL1 "External Oscillator Input (Feedback resistor required, normally NC)", 7 VSSC (power) "Core Supply Ground", 8 VDDC (power) "Core Supply Monitor (2.5 V)", 9 P1.6 (io), 10 P1.7 (io), 11 TMS (in) "JTAG Test Mode Select", 12 P0.0 (io), 13 P0.2 (io), 14 P0.1 (io), 15 AN1 (in) "Analog Input 1", 16 AN2 (in) "Analog Input 2", 17 VDDP (power) "I/O Port Supply (3.3 or 5.0 V) Also used by EVR and analog modules. All pins must be connected.", 18 VSSP (power) "I/O Ground All pins must be connected.", 19 AN4 (in) "Analog Input 4", 20 AN5 (in) "Analog Input 5", 21 AN6 (in) "Analog Input 6", 22 VAGND (power) "ADC Reference Ground", 23 VAREF (power) "ADC Reference Voltage", 24 AN7 (in) "Analog Input 7", 25 P1.0 (io), 26 P1.1 (io), 27 P1.2 (io), 28 P1.3 (io), 29 P1.4 (io), 30 P1.5 (io), 31 P4.3 (io), 32 P3.6 (io), 33 P3.0 (io), 34 P3.1 (io), 35 P3.2 (io), 36 P3.3 (io), 37 P3.4 (io), 38 P3.5 (io), 39 ~{RESET} (in) "Reset Input", 40 VSSP (power) "I/O Ground All pins must be connected.", 41 VDDP (power) "I/O Port Supply (3.3 or 5.0 V) Also used by EVR and analog modules. All pins must be connected.", 42 NC "No Connection", 43 TM (in) "Test Mode (External pull down device required)", 44 MBC (in) "Monitor & BootStrap Loader Control", 45 P4.0 (io), 46 P4.1 (io), 47 P4.2 (io), 48 P0.7 (io), 49 EP "Exposed Pad"

## SAK-XC878-13FFA 5V AC
designator U?
26.7 MHz XC800-Automotive MCU with 52 KByte Program Memory, 3 KByte SRAM, 5 V, PG-LQFP-64, Reel, Green; Manufacturer: Infineon; PartNumber: SAK-XC878-13FFA 5V AC; A / D input lines (incl. FADC): 8; CAN Nodes: 0; Digital I/O Lines: 40; DSP functionality (e.g MDU/MAC): FALSE; E2PROM Emulation (Data-Flash): TRUE; I/O Operation Voltages: 5 V; LIN BSL loader (for fast Flash programming): FALSE; Number of ADC Modules: 1; Power Modes: 4; Serial I/O Interfaces: 3; SRAM (incl. Cache): 3 KByte; Timed I/O Pins (PWM-Ch,CAPCOM): up to 10; Type of Memory: Flash; Type of Serial I/O Interfaces: UART(2), SCC(1); DatasheetVersion: Rev. 1.5; PackageVersion: Jun-08; PackageReference: PG-LQFP-64-4; PackageDescription: 64-Pin Plastic (Green) Low Profile Quad Flat Package, 10 x 10 mm Body, 0.5 mm Pitch; Supplier 1: Digi-Key; Supplier Part Number 1: SAK-XC878-13FFA 5V AC-ND; DMA Channels: 0; Green: TRUE; Halogen-free: TRUE; Instruction width [bits]: 8; Max Clock Frequency: 26.7 MHz; On-chip clock generation: TRUE; On-chip Voltage Regulator: TRUE; Oscillator Watchdog: TRUE; Packing: Reel; Program Memory: 52 KByte; Real Time Clock (RTC): FALSE; Timer / Counter: 4; Watchdog Timer: TRUE; Mounting Technology: Surface Mount; ComponentLink1Description: Manufacturer URL; ComponentLink1URL: http://www.infineon.com/; ComponentLink2Description: Datasheet; ComponentLink2URL: http://www.infineon.com/dgdl/Microcontroller-XC87x-Data-Sheet-V15-infineon.pdf?folderId=db3a304412b407950112b40c497b0af6&fileId=db3a30432239cccd01231293d56908b1; ComponentLink3Description: Package Specification; ComponentLink3URL: http://www.infineon.com/dgdl/PG-LQFP-64-4%2C-5%2C-13-Package_Overview.pdf?folderId=db3a30431a5c32f2011a8ca6115b5cf2&fileId=db3a30431a5c32f2011a8cb1baf95d11
footprint INF-PG-LQFP-64-4_N (QFP, 64-Leads, Body 10x10mm, Pitch 0.5mm, IPC Medium Density)
footprint INF-PG-LQFP-64-4_L (QFP, 64-Leads, Body 10x10mm, Pitch 0.5mm, IPC High Density)
footprint INF-PG-LQFP-64-4_M (QFP, 64-Leads, Body 10x10mm, Pitch 0.5mm, IPC Low Density)
part A pins: 1 P0.5 (io), 2 P0.6 (io), 3 XTAL2 "External Oscillator Output", 4 XTAL1 "External Oscillator Input", 8 P5.0 (io), 9 P5.1 (io), 10 P1.6 (io), 11 P1.7 (io), 12 P5.2 (io), 13 P5.3 (io), 14 P5.4 (io), 15 P5.5 (io), 16 TMS (in) "JTAG Test Mode Select", 17 P0.0 (io), 18 P0.2 (io), 19 P5.6 (io), 20 P5.7 (io), 21 P0.1 (io), 22 AN0 (in) "Analog Input 0", 23 AN1 (in) "Analog Input 1", 24 AN2 (in) "Analog Input 2", 27 AN3 (in) "Analog Input 3", 28 AN4 (in) "Analog Input 4", 29 AN5 (in) "Analog Input 5", 30 AN6 (in) "Analog Input 6", 33 AN7 (in) "Analog Input 7", 34 P1.0 (io), 35 P1.1 (io), 36 P1.2 (io), 37 P1.3 (io), 38 P1.4 (io), 39 P1.5 (io), 40 P4.3 (io), 41 P3.6 (io), 42 P3.7 (io), 43 P3.0 (io), 44 P3.1 (io), 45 P4.4 (io), 46 P4.5 (io), 47 P4.6 (io), 48 P4.7 (io), 49 P3.2 (io), 50 P3.3 (io), 51 P3.4 (io), 52 P3.5 (io), 53 ~{RESET} (in) "Reset Input", 56 NC "No Connection", 57 TM (in) "Test Mode", 58 MBC (in) "Monitor & BootStrap Loader Control", 59 P4.0 (io), 60 P4.1 (io), 61 P4.2 (io), 62 P0.7 (io), 63 P0.3 (io), 64 P0.4 (io)
part B pins: 5 VSSC (power) "Core Supply Ground", 6 VDDC (power) "Core Supply Monitor (2.5 V)", 7 VDDP (power) "I/O Port Supply", 25 VDDP (power) "I/O Port Supply", 26 VSSP (power) "I/O Ground", 31 VAGND (power) "ADC Reference Ground", 32 VAREF (power) "ADC Reference Voltage", 54 VSSP (power) "I/O Ground", 55 VDDP (power) "I/O Port Supply"

## SAK-XC878-16FFA 5V AC
designator U?
26.7 MHz XC800-Automotive MCU with 64 KByte Program Memory, 3 KByte SRAM, 5 V, PG-LQFP-64, Reel, Green; Manufacturer: Infineon; PartNumber: SAK-XC878-16FFA 5V AC; A / D input lines (incl. FADC): 8; CAN Nodes: 0; Digital I/O Lines: 40; DSP functionality (e.g MDU/MAC): FALSE; E2PROM Emulation (Data-Flash): TRUE; I/O Operation Voltages: 5 V; LIN BSL loader (for fast Flash programming): FALSE; Number of ADC Modules: 1; Power Modes: 4; Serial I/O Interfaces: 3; SRAM (incl. Cache): 3 KByte; Timed I/O Pins (PWM-Ch,CAPCOM): up to 10; Type of Memory: Flash; Type of Serial I/O Interfaces: UART(2), SCC(1); DatasheetVersion: Rev. 1.5; PackageVersion: Jun-08; PackageReference: PG-LQFP-64-4; PackageDescription: 64-Pin Plastic (Green) Low Profile Quad Flat Package, 10 x 10 mm Body, 0.5 mm Pitch; Supplier 1: Digi-Key; Supplier Part Number 1: SAK-XC878-16FFA 5V AC-ND; DMA Channels: 0; Green: TRUE; Halogen-free: TRUE; Instruction width [bits]: 8; Max Clock Frequency: 26.7 MHz; On-chip clock generation: TRUE; On-chip Voltage Regulator: TRUE; Oscillator Watchdog: TRUE; Packing: Reel; Program Memory: 64 KByte; Real Time Clock (RTC): FALSE; Timer / Counter: 4; Watchdog Timer: TRUE; Mounting Technology: Surface Mount; ComponentLink1Description: Manufacturer URL; ComponentLink1URL: http://www.infineon.com/; ComponentLink2Description: Datasheet; ComponentLink2URL: http://www.infineon.com/dgdl/Microcontroller-XC87x-Data-Sheet-V15-infineon.pdf?folderId=db3a304412b407950112b40c497b0af6&fileId=db3a30432239cccd01231293d56908b1; ComponentLink3Description: Package Specification; ComponentLink3URL: http://www.infineon.com/dgdl/PG-LQFP-64-4%2C-5%2C-13-Package_Overview.pdf?folderId=db3a30431a5c32f2011a8ca6115b5cf2&fileId=db3a30431a5c32f2011a8cb1baf95d11
footprint INF-PG-LQFP-64-4_N (QFP, 64-Leads, Body 10x10mm, Pitch 0.5mm, IPC Medium Density)
footprint INF-PG-LQFP-64-4_L (QFP, 64-Leads, Body 10x10mm, Pitch 0.5mm, IPC High Density)
footprint INF-PG-LQFP-64-4_M (QFP, 64-Leads, Body 10x10mm, Pitch 0.5mm, IPC Low Density)
part A pins: 1 P0.5 (io), 2 P0.6 (io), 3 XTAL2 "External Oscillator Output", 4 XTAL1 "External Oscillator Input", 8 P5.0 (io), 9 P5.1 (io), 10 P1.6 (io), 11 P1.7 (io), 12 P5.2 (io), 13 P5.3 (io), 14 P5.4 (io), 15 P5.5 (io), 16 TMS (in) "JTAG Test Mode Select", 17 P0.0 (io), 18 P0.2 (io), 19 P5.6 (io), 20 P5.7 (io), 21 P0.1 (io), 22 AN0 (in) "Analog Input 0", 23 AN1 (in) "Analog Input 1", 24 AN2 (in) "Analog Input 2", 27 AN3 (in) "Analog Input 3", 28 AN4 (in) "Analog Input 4", 29 AN5 (in) "Analog Input 5", 30 AN6 (in) "Analog Input 6", 33 AN7 (in) "Analog Input 7", 34 P1.0 (io), 35 P1.1 (io), 36 P1.2 (io), 37 P1.3 (io), 38 P1.4 (io), 39 P1.5 (io), 40 P4.3 (io), 41 P3.6 (io), 42 P3.7 (io), 43 P3.0 (io), 44 P3.1 (io), 45 P4.4 (io), 46 P4.5 (io), 47 P4.6 (io), 48 P4.7 (io), 49 P3.2 (io), 50 P3.3 (io), 51 P3.4 (io), 52 P3.5 (io), 53 ~{RESET} (in) "Reset Input", 56 NC "No Connection", 57 TM (in) "Test Mode", 58 MBC (in) "Monitor & BootStrap Loader Control", 59 P4.0 (io), 60 P4.1 (io), 61 P4.2 (io), 62 P0.7 (io), 63 P0.3 (io), 64 P0.4 (io)
part B pins: 5 VSSC (power) "Core Supply Ground", 6 VDDC (power) "Core Supply Monitor (2.5 V)", 7 VDDP (power) "I/O Port Supply", 25 VDDP (power) "I/O Port Supply", 26 VSSP (power) "I/O Ground", 31 VAGND (power) "ADC Reference Ground", 32 VAREF (power) "ADC Reference Voltage", 54 VSSP (power) "I/O Ground", 55 VDDP (power) "I/O Port Supply"

## SAK-XC878CLM-13FFA 5V AC
designator U?
26.7 MHz XC800-Automotive MCU with 52 KByte Program Memory, 3 KByte SRAM, 5 V, PG-LQFP-64, Reel, Green; Manufacturer: Infineon; PartNumber: SAK-XC878CLM-13FFA 5V AC; A / D input lines (incl. FADC): 8; CAN Nodes: 2; Digital I/O Lines: 40; DMA Channels: 0; DSP functionality (e.g MDU/MAC): TRUE; I/O Operation Voltages: 5 V; LIN BSL loader (for fast Flash programming): FALSE; Number of ADC Modules: 1; Power Modes: 4; Real Time Clock (RTC): FALSE; Serial I/O Interfaces: 3; SRAM (incl. Cache): 3 KByte; Timed I/O Pins (PWM-Ch,CAPCOM): up to 10; Type of Memory: Flash; Type of Serial I/O Interfaces: UART(2), SCC(1); DatasheetVersion: Rev. 1.5; PackageVersion: Jun-08; PackageReference: PG-LQFP-64-4; PackageDescription: 64-Pin Plastic (Green) Low Profile Quad Flat Package, 10 x 10 mm Body, 0.5 mm Pitch; E2PROM Emulation (Data-Flash): TRUE; Green: TRUE; Halogen-free: TRUE; Instruction width [bits]: 8; Max Clock Frequency: 26.7 MHz; On-chip clock generation: TRUE; On-chip Voltage Regulator: TRUE; Oscillator Watchdog: TRUE; Packing: Reel; Program Memory: 52 KByte; Timer / Counter: 4; Watchdog Timer: TRUE; Mounting Technology: Surface Mount; ComponentLink1Description: Manufacturer URL; ComponentLink1URL: http://www.infineon.com/; ComponentLink2Description: Datasheet; ComponentLink2URL: http://www.infineon.com/dgdl/Microcontroller-XC87x-Data-Sheet-V15-infineon.pdf?folderId=db3a304412b407950112b40c497b0af6&fileId=db3a30432239cccd01231293d56908b1; ComponentLink3Description: Package Specification; ComponentLink3URL: http://www.infineon.com/dgdl/PG-LQFP-64-4%2C-5%2C-13-Package_Overview.pdf?folderId=db3a30431a5c32f2011a8ca6115b5cf2&fileId=db3a30431a5c32f2011a8cb1baf95d11
footprint INF-PG-LQFP-64-4_N (QFP, 64-Leads, Body 10x10mm, Pitch 0.5mm, IPC Medium Density)
footprint INF-PG-LQFP-64-4_L (QFP, 64-Leads, Body 10x10mm, Pitch 0.5mm, IPC High Density)
footprint INF-PG-LQFP-64-4_M (QFP, 64-Leads, Body 10x10mm, Pitch 0.5mm, IPC Low Density)
part A pins: 1 P0.5 (io), 2 P0.6 (io), 3 XTAL2 "External Oscillator Output", 4 XTAL1 "External Oscillator Input", 8 P5.0 (io), 9 P5.1 (io), 10 P1.6 (io), 11 P1.7 (io), 12 P5.2 (io), 13 P5.3 (io), 14 P5.4 (io), 15 P5.5 (io), 16 TMS (in) "JTAG Test Mode Select", 17 P0.0 (io), 18 P0.2 (io), 19 P5.6 (io), 20 P5.7 (io), 21 P0.1 (io), 22 AN0 (in) "Analog Input 0", 23 AN1 (in) "Analog Input 1", 24 AN2 (in) "Analog Input 2", 27 AN3 (in) "Analog Input 3", 28 AN4 (in) "Analog Input 4", 29 AN5 (in) "Analog Input 5", 30 AN6 (in) "Analog Input 6", 33 AN7 (in) "Analog Input 7", 34 P1.0 (io), 35 P1.1 (io), 36 P1.2 (io), 37 P1.3 (io), 38 P1.4 (io), 39 P1.5 (io), 40 P4.3 (io), 41 P3.6 (io), 42 P3.7 (io), 43 P3.0 (io), 44 P3.1 (io), 45 P4.4 (io), 46 P4.5 (io), 47 P4.6 (io), 48 P4.7 (io), 49 P3.2 (io), 50 P3.3 (io), 51 P3.4 (io), 52 P3.5 (io), 53 ~{RESET} (in) "Reset Input", 56 NC "No Connection", 57 TM (in) "Test Mode", 58 MBC (in) "Monitor & BootStrap Loader Control", 59 P4.0 (io), 60 P4.1 (io), 61 P4.2 (io), 62 P0.7 (io), 63 P0.3 (io), 64 P0.4 (io)
part B pins: 5 VSSC (power) "Core Supply Ground", 6 VDDC (power) "Core Supply Monitor (2.5 V)", 7 VDDP (power) "I/O Port Supply", 25 VDDP (power) "I/O Port Supply", 26 VSSP (power) "I/O Ground", 31 VAGND (power) "ADC Reference Ground", 32 VAREF (power) "ADC Reference Voltage", 54 VSSP (power) "I/O Ground", 55 VDDP (power) "I/O Port Supply"

## SAK-XC878CLM-16FFA 5V AC
designator U?
26.7 MHz XC800-Automotive MCU with 64 KByte Program Memory, 3 KByte SRAM, 5 V, PG-LQFP-64, Reel, Green; Manufacturer: Infineon; PartNumber: SAK-XC878CLM-16FFA 5V AC; A / D input lines (incl. FADC): 8; CAN Nodes: 2; Digital I/O Lines: 40; DMA Channels: 0; DSP functionality (e.g MDU/MAC): TRUE; I/O Operation Voltages: 5 V; LIN BSL loader (for fast Flash programming): FALSE; Number of ADC Modules: 1; Power Modes: 4; Real Time Clock (RTC): FALSE; Serial I/O Interfaces: 3; SRAM (incl. Cache): 3 KByte; Timed I/O Pins (PWM-Ch,CAPCOM): up to 10; Type of Memory: Flash; Type of Serial I/O Interfaces: UART(2), SCC(1); DatasheetVersion: Rev. 1.5; PackageVersion: Jun-08; PackageReference: PG-LQFP-64-4; PackageDescription: 64-Pin Plastic (Green) Low Profile Quad Flat Package, 10 x 10 mm Body, 0.5 mm Pitch; Supplier 1: Digi-Key; Supplier Part Number 1: SAK-XC878CLM-16FFA 5V AC-ND; E2PROM Emulation (Data-Flash): TRUE; Green: TRUE; Halogen-free: TRUE; Instruction width [bits]: 8; Max Clock Frequency: 26.7 MHz; On-chip clock generation: TRUE; On-chip Voltage Regulator: TRUE; Oscillator Watchdog: TRUE; Packing: Reel; Program Memory: 64 KByte; Timer / Counter: 4; Watchdog Timer: TRUE; Mounting Technology: Surface Mount; ComponentLink1Description: Manufacturer URL; ComponentLink1URL: http://www.infineon.com/; ComponentLink2Description: Datasheet; ComponentLink2URL: http://www.infineon.com/dgdl/Microcontroller-XC87x-Data-Sheet-V15-infineon.pdf?folderId=db3a304412b407950112b40c497b0af6&fileId=db3a30432239cccd01231293d56908b1; ComponentLink3Description: Package Specification; ComponentLink3URL: http://www.infineon.com/dgdl/PG-LQFP-64-4%2C-5%2C-13-Package_Overview.pdf?folderId=db3a30431a5c32f2011a8ca6115b5cf2&fileId=db3a30431a5c32f2011a8cb1baf95d11
footprint INF-PG-LQFP-64-4_N (QFP, 64-Leads, Body 10x10mm, Pitch 0.5mm, IPC Medium Density)
footprint INF-PG-LQFP-64-4_L (QFP, 64-Leads, Body 10x10mm, Pitch 0.5mm, IPC High Density)
footprint INF-PG-LQFP-64-4_M (QFP, 64-Leads, Body 10x10mm, Pitch 0.5mm, IPC Low Density)
part A pins: 1 P0.5 (io), 2 P0.6 (io), 3 XTAL2 "External Oscillator Output", 4 XTAL1 "External Oscillator Input", 8 P5.0 (io), 9 P5.1 (io), 10 P1.6 (io), 11 P1.7 (io), 12 P5.2 (io), 13 P5.3 (io), 14 P5.4 (io), 15 P5.5 (io), 16 TMS (in) "JTAG Test Mode Select", 17 P0.0 (io), 18 P0.2 (io), 19 P5.6 (io), 20 P5.7 (io), 21 P0.1 (io), 22 AN0 (in) "Analog Input 0", 23 AN1 (in) "Analog Input 1", 24 AN2 (in) "Analog Input 2", 27 AN3 (in) "Analog Input 3", 28 AN4 (in) "Analog Input 4", 29 AN5 (in) "Analog Input 5", 30 AN6 (in) "Analog Input 6", 33 AN7 (in) "Analog Input 7", 34 P1.0 (io), 35 P1.1 (io), 36 P1.2 (io), 37 P1.3 (io), 38 P1.4 (io), 39 P1.5 (io), 40 P4.3 (io), 41 P3.6 (io), 42 P3.7 (io), 43 P3.0 (io), 44 P3.1 (io), 45 P4.4 (io), 46 P4.5 (io), 47 P4.6 (io), 48 P4.7 (io), 49 P3.2 (io), 50 P3.3 (io), 51 P3.4 (io), 52 P3.5 (io), 53 ~{RESET} (in) "Reset Input", 56 NC "No Connection", 57 TM (in) "Test Mode", 58 MBC (in) "Monitor & BootStrap Loader Control", 59 P4.0 (io), 60 P4.1 (io), 61 P4.2 (io), 62 P0.7 (io), 63 P0.3 (io), 64 P0.4 (io)
part B pins: 5 VSSC (power) "Core Supply Ground", 6 VDDC (power) "Core Supply Monitor (2.5 V)", 7 VDDP (power) "I/O Port Supply", 25 VDDP (power) "I/O Port Supply", 26 VSSP (power) "I/O Ground", 31 VAGND (power) "ADC Reference Ground", 32 VAREF (power) "ADC Reference Voltage", 54 VSSP (power) "I/O Ground", 55 VDDP (power) "I/O Port Supply"

## SAK-XC878CM-13FFA 5V AC
designator U?
26.7 MHz XC800-Automotive MCU with 52 KByte Program Memory, 3 KByte SRAM, 5 V, PG-LQFP-64, Reel, Green; Manufacturer: Infineon; PartNumber: SAK-XC878CM-13FFA 5V AC; A / D input lines (incl. FADC): 8; CAN Nodes: 2; Digital I/O Lines: 40; DMA Channels: 0; DSP functionality (e.g MDU/MAC): FALSE; E2PROM Emulation (Data-Flash): TRUE; I/O Operation Voltages: 5 V; LIN BSL loader (for fast Flash programming): FALSE; Number of ADC Modules: 1; Power Modes: 4; Serial I/O Interfaces: 3; SRAM (incl. Cache): 3 KByte; Timed I/O Pins (PWM-Ch,CAPCOM): up to 10; Type of Memory: Flash; Type of Serial I/O Interfaces: UART(2), SCC(1); DatasheetVersion: Rev. 1.5; PackageVersion: Jun-08; PackageReference: PG-LQFP-64-4; PackageDescription: 64-Pin Plastic (Green) Low Profile Quad Flat Package, 10 x 10 mm Body, 0.5 mm Pitch; Green: TRUE; Halogen-free: TRUE; Instruction width [bits]: 8; Max Clock Frequency: 26.7 MHz; On-chip clock generation: TRUE; On-chip Voltage Regulator: TRUE; Oscillator Watchdog: TRUE; Packing: Reel; Program Memory: 52 KByte; Real Time Clock (RTC): FALSE; Timer / Counter: 4; Watchdog Timer: TRUE; Mounting Technology: Surface Mount; ComponentLink1Description: Manufacturer URL; ComponentLink1URL: http://www.infineon.com/; ComponentLink2Description: Datasheet; ComponentLink2URL: http://www.infineon.com/dgdl/Microcontroller-XC87x-Data-Sheet-V15-infineon.pdf?folderId=db3a304412b407950112b40c497b0af6&fileId=db3a30432239cccd01231293d56908b1; ComponentLink3Description: Package Specification; ComponentLink3URL: http://www.infineon.com/dgdl/PG-LQFP-64-4%2C-5%2C-13-Package_Overview.pdf?folderId=db3a30431a5c32f2011a8ca6115b5cf2&fileId=db3a30431a5c32f2011a8cb1baf95d11
footprint INF-PG-LQFP-64-4_N (QFP, 64-Leads, Body 10x10mm, Pitch 0.5mm, IPC Medium Density)
footprint INF-PG-LQFP-64-4_L (QFP, 64-Leads, Body 10x10mm, Pitch 0.5mm, IPC High Density)
footprint INF-PG-LQFP-64-4_M (QFP, 64-Leads, Body 10x10mm, Pitch 0.5mm, IPC Low Density)
part A pins: 1 P0.5 (io), 2 P0.6 (io), 3 XTAL2 "External Oscillator Output", 4 XTAL1 "External Oscillator Input", 8 P5.0 (io), 9 P5.1 (io), 10 P1.6 (io), 11 P1.7 (io), 12 P5.2 (io), 13 P5.3 (io), 14 P5.4 (io), 15 P5.5 (io), 16 TMS (in) "JTAG Test Mode Select", 17 P0.0 (io), 18 P0.2 (io), 19 P5.6 (io), 20 P5.7 (io), 21 P0.1 (io), 22 AN0 (in) "Analog Input 0", 23 AN1 (in) "Analog Input 1", 24 AN2 (in) "Analog Input 2", 27 AN3 (in) "Analog Input 3", 28 AN4 (in) "Analog Input 4", 29 AN5 (in) "Analog Input 5", 30 AN6 (in) "Analog Input 6", 33 AN7 (in) "Analog Input 7", 34 P1.0 (io), 35 P1.1 (io), 36 P1.2 (io), 37 P1.3 (io), 38 P1.4 (io), 39 P1.5 (io), 40 P4.3 (io), 41 P3.6 (io), 42 P3.7 (io), 43 P3.0 (io), 44 P3.1 (io), 45 P4.4 (io), 46 P4.5 (io), 47 P4.6 (io), 48 P4.7 (io), 49 P3.2 (io), 50 P3.3 (io), 51 P3.4 (io), 52 P3.5 (io), 53 ~{RESET} (in) "Reset Input", 56 NC "No Connection", 57 TM (in) "Test Mode", 58 MBC (in) "Monitor & BootStrap Loader Control", 59 P4.0 (io), 60 P4.1 (io), 61 P4.2 (io), 62 P0.7 (io), 63 P0.3 (io), 64 P0.4 (io)
part B pins: 5 VSSC (power) "Core Supply Ground", 6 VDDC (power) "Core Supply Monitor (2.5 V)", 7 VDDP (power) "I/O Port Supply", 25 VDDP (power) "I/O Port Supply", 26 VSSP (power) "I/O Ground", 31 VAGND (power) "ADC Reference Ground", 32 VAREF (power) "ADC Reference Voltage", 54 VSSP (power) "I/O Ground", 55 VDDP (power) "I/O Port Supply"

## SAK-XC878CM-16FFA 5V AC
designator U?
26.7 MHz XC800-Automotive MCU with 64 KByte Program Memory, 3 KByte SRAM, 5 V, PG-LQFP-64, Reel, Green; Manufacturer: Infineon; PartNumber: SAK-XC878CM-16FFA 5V AC; A / D input lines (incl. FADC): 8; CAN Nodes: 2; Digital I/O Lines: 40; DMA Channels: 0; DSP functionality (e.g MDU/MAC): FALSE; E2PROM Emulation (Data-Flash): TRUE; I/O Operation Voltages: 5 V; LIN BSL loader (for fast Flash programming): FALSE; Number of ADC Modules: 1; Power Modes: 4; Serial I/O Interfaces: 3; SRAM (incl. Cache): 3 KByte; Timed I/O Pins (PWM-Ch,CAPCOM): up to 10; Type of Memory: Flash; Type of Serial I/O Interfaces: UART(2), SCC(1); DatasheetVersion: Rev. 1.5; PackageVersion: Jun-08; PackageReference: PG-LQFP-64-4; PackageDescription: 64-Pin Plastic (Green) Low Profile Quad Flat Package, 10 x 10 mm Body, 0.5 mm Pitch; Supplier 1: Digi-Key; Supplier Part Number 1: SAK-XC878CM-16FFA 5V AC-ND; Green: TRUE; Halogen-free: TRUE; Instruction width [bits]: 8; Max Clock Frequency: 26.7 MHz; On-chip clock generation: TRUE; On-chip Voltage Regulator: TRUE; Oscillator Watchdog: TRUE; Packing: Reel; Program Memory: 64 KByte; Real Time Clock (RTC): FALSE; Timer / Counter: 4; Watchdog Timer: TRUE; Mounting Technology: Surface Mount; ComponentLink1Description: Manufacturer URL; ComponentLink1URL: http://www.infineon.com/; ComponentLink2Description: Datasheet; ComponentLink2URL: http://www.infineon.com/dgdl/Microcontroller-XC87x-Data-Sheet-V15-infineon.pdf?folderId=db3a304412b407950112b40c497b0af6&fileId=db3a30432239cccd01231293d56908b1; ComponentLink3Description: Package Specification; ComponentLink3URL: http://www.infineon.com/dgdl/PG-LQFP-64-4%2C-5%2C-13-Package_Overview.pdf?folderId=db3a30431a5c32f2011a8ca6115b5cf2&fileId=db3a30431a5c32f2011a8cb1baf95d11
footprint INF-PG-LQFP-64-4_N (QFP, 64-Leads, Body 10x10mm, Pitch 0.5mm, IPC Medium Density)
footprint INF-PG-LQFP-64-4_L (QFP, 64-Leads, Body 10x10mm, Pitch 0.5mm, IPC High Density)
footprint INF-PG-LQFP-64-4_M (QFP, 64-Leads, Body 10x10mm, Pitch 0.5mm, IPC Low Density)
part A pins: 1 P0.5 (io), 2 P0.6 (io), 3 XTAL2 "External Oscillator Output", 4 XTAL1 "External Oscillator Input", 8 P5.0 (io), 9 P5.1 (io), 10 P1.6 (io), 11 P1.7 (io), 12 P5.2 (io), 13 P5.3 (io), 14 P5.4 (io), 15 P5.5 (io), 16 TMS (in) "JTAG Test Mode Select", 17 P0.0 (io), 18 P0.2 (io), 19 P5.6 (io), 20 P5.7 (io), 21 P0.1 (io), 22 AN0 (in) "Analog Input 0", 23 AN1 (in) "Analog Input 1", 24 AN2 (in) "Analog Input 2", 27 AN3 (in) "Analog Input 3", 28 AN4 (in) "Analog Input 4", 29 AN5 (in) "Analog Input 5", 30 AN6 (in) "Analog Input 6", 33 AN7 (in) "Analog Input 7", 34 P1.0 (io), 35 P1.1 (io), 36 P1.2 (io), 37 P1.3 (io), 38 P1.4 (io), 39 P1.5 (io), 40 P4.3 (io), 41 P3.6 (io), 42 P3.7 (io), 43 P3.0 (io), 44 P3.1 (io), 45 P4.4 (io), 46 P4.5 (io), 47 P4.6 (io), 48 P4.7 (io), 49 P3.2 (io), 50 P3.3 (io), 51 P3.4 (io), 52 P3.5 (io), 53 ~{RESET} (in) "Reset Input", 56 NC "No Connection", 57 TM (in) "Test Mode", 58 MBC (in) "Monitor & BootStrap Loader Control", 59 P4.0 (io), 60 P4.1 (io), 61 P4.2 (io), 62 P0.7 (io), 63 P0.3 (io), 64 P0.4 (io)
part B pins: 5 VSSC (power) "Core Supply Ground", 6 VDDC (power) "Core Supply Monitor (2.5 V)", 7 VDDP (power) "I/O Port Supply", 25 VDDP (power) "I/O Port Supply", 26 VSSP (power) "I/O Ground", 31 VAGND (power) "ADC Reference Ground", 32 VAREF (power) "ADC Reference Voltage", 54 VSSP (power) "I/O Ground", 55 VDDP (power) "I/O Port Supply"

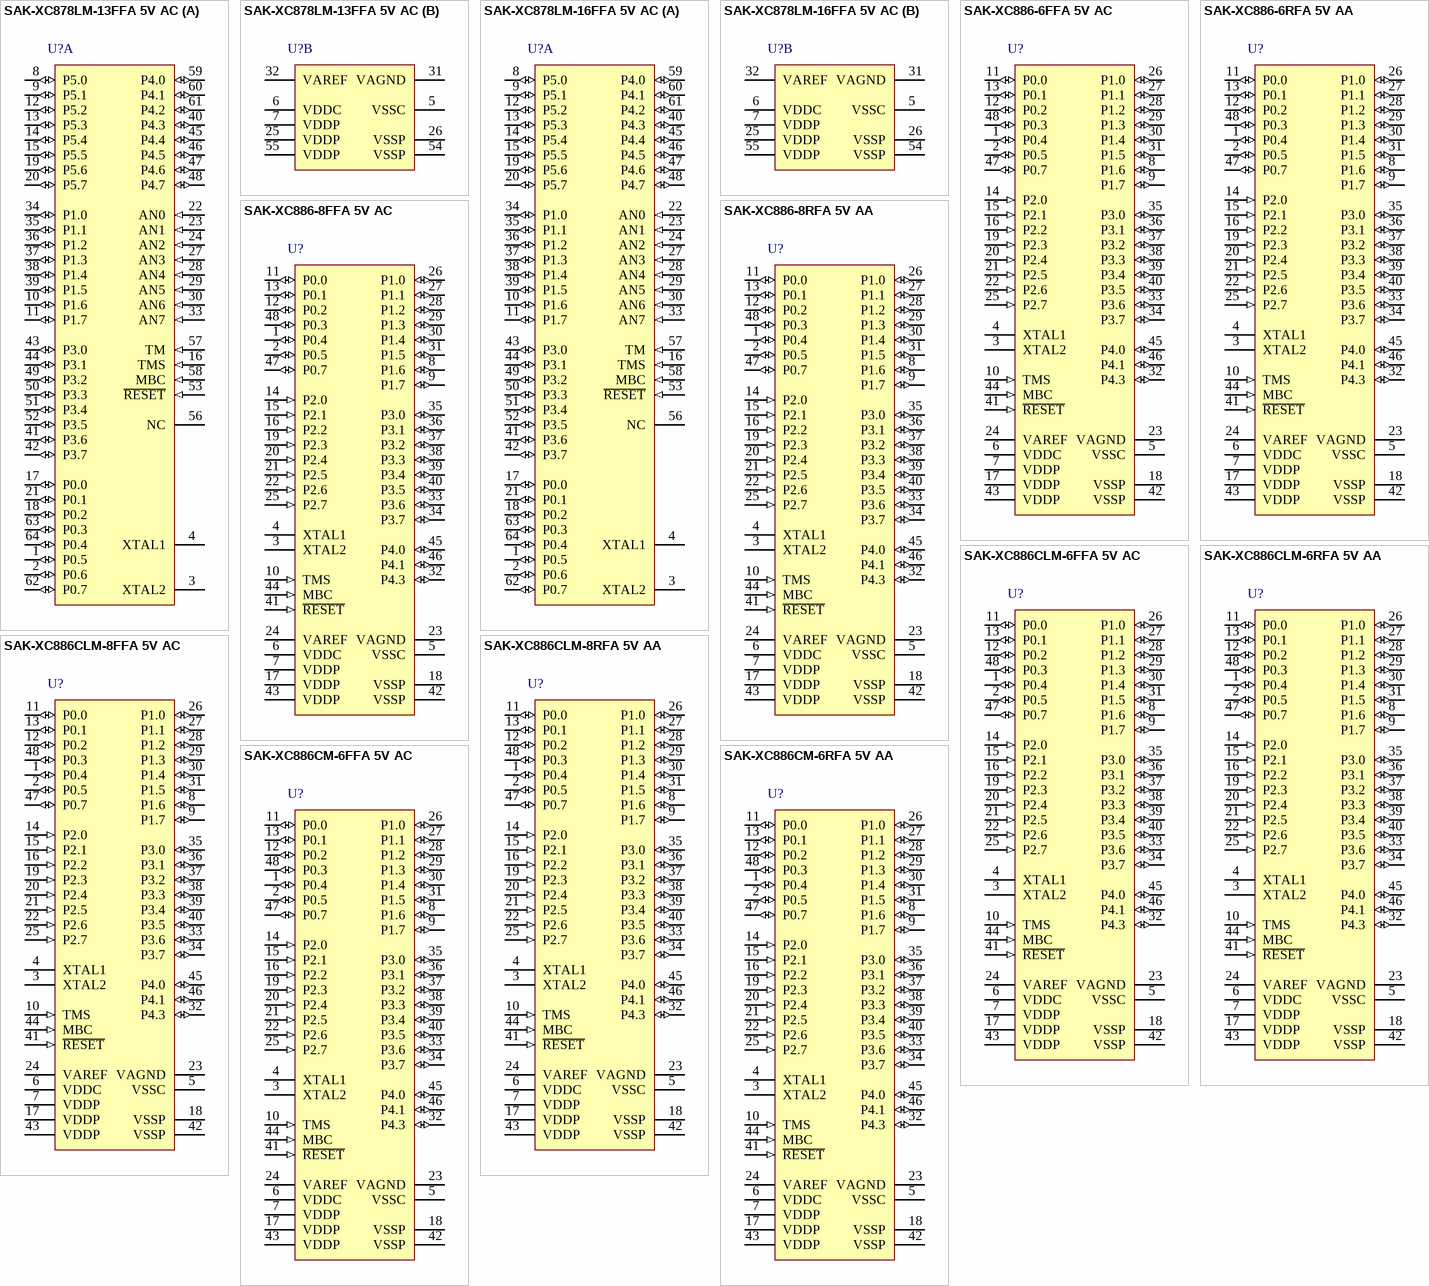
[diagram p69: symbols SAK-XC878LM-13FFA 5V AC to SAK-XC886CM-6RFA 5V AA]

## SAK-XC878LM-13FFA 5V AC
designator U?
26.7 MHz XC800-Automotive MCU with 52 KByte Program Memory, 3 KByte SRAM, 5 V, PG-LQFP-64, Reel, Green; Manufacturer: Infineon; PartNumber: SAK-XC878LM-13FFA 5V AC; A / D input lines (incl. FADC): 8; CAN Nodes: 0; Digital I/O Lines: 40; DSP functionality (e.g MDU/MAC): TRUE; I/O Operation Voltages: 5 V; LIN BSL loader (for fast Flash programming): FALSE; Number of ADC Modules: 1; Power Modes: 4; Real Time Clock (RTC): FALSE; Serial I/O Interfaces: 3; SRAM (incl. Cache): 3 KByte; Timed I/O Pins (PWM-Ch,CAPCOM): up to 10; Type of Memory: Flash; Type of Serial I/O Interfaces: UART(2), SCC(1); DatasheetVersion: Rev. 1.5; PackageVersion: Jun-08; PackageReference: PG-LQFP-64-4; PackageDescription: 64-Pin Plastic (Green) Low Profile Quad Flat Package, 10 x 10 mm Body, 0.5 mm Pitch; DMA Channels: 0; E2PROM Emulation (Data-Flash): TRUE; Green: TRUE; Halogen-free: TRUE; Instruction width [bits]: 8; Max Clock Frequency: 26.7 MHz; On-chip clock generation: TRUE; On-chip Voltage Regulator: TRUE; Oscillator Watchdog: TRUE; Packing: Reel; Program Memory: 52 KByte; Timer / Counter: 4; Watchdog Timer: TRUE; Mounting Technology: Surface Mount; ComponentLink1Description: Manufacturer URL; ComponentLink1URL: http://www.infineon.com/; ComponentLink2Description: Datasheet; ComponentLink2URL: http://www.infineon.com/dgdl/Microcontroller-XC87x-Data-Sheet-V15-infineon.pdf?folderId=db3a304412b407950112b40c497b0af6&fileId=db3a30432239cccd01231293d56908b1; ComponentLink3Description: Package Specification; ComponentLink3URL: http://www.infineon.com/dgdl/PG-LQFP-64-4%2C-5%2C-13-Package_Overview.pdf?folderId=db3a30431a5c32f2011a8ca6115b5cf2&fileId=db3a30431a5c32f2011a8cb1baf95d11
footprint INF-PG-LQFP-64-4_N (QFP, 64-Leads, Body 10x10mm, Pitch 0.5mm, IPC Medium Density)
footprint INF-PG-LQFP-64-4_L (QFP, 64-Leads, Body 10x10mm, Pitch 0.5mm, IPC High Density)
footprint INF-PG-LQFP-64-4_M (QFP, 64-Leads, Body 10x10mm, Pitch 0.5mm, IPC Low Density)
part A pins: 1 P0.5 (io), 2 P0.6 (io), 3 XTAL2 "External Oscillator Output", 4 XTAL1 "External Oscillator Input", 8 P5.0 (io), 9 P5.1 (io), 10 P1.6 (io), 11 P1.7 (io), 12 P5.2 (io), 13 P5.3 (io), 14 P5.4 (io), 15 P5.5 (io), 16 TMS (in) "JTAG Test Mode Select", 17 P0.0 (io), 18 P0.2 (io), 19 P5.6 (io), 20 P5.7 (io), 21 P0.1 (io), 22 AN0 (in) "Analog Input 0", 23 AN1 (in) "Analog Input 1", 24 AN2 (in) "Analog Input 2", 27 AN3 (in) "Analog Input 3", 28 AN4 (in) "Analog Input 4", 29 AN5 (in) "Analog Input 5", 30 AN6 (in) "Analog Input 6", 33 AN7 (in) "Analog Input 7", 34 P1.0 (io), 35 P1.1 (io), 36 P1.2 (io), 37 P1.3 (io), 38 P1.4 (io), 39 P1.5 (io), 40 P4.3 (io), 41 P3.6 (io), 42 P3.7 (io), 43 P3.0 (io), 44 P3.1 (io), 45 P4.4 (io), 46 P4.5 (io), 47 P4.6 (io), 48 P4.7 (io), 49 P3.2 (io), 50 P3.3 (io), 51 P3.4 (io), 52 P3.5 (io), 53 ~{RESET} (in) "Reset Input", 56 NC "No Connection", 57 TM (in) "Test Mode", 58 MBC (in) "Monitor & BootStrap Loader Control", 59 P4.0 (io), 60 P4.1 (io), 61 P4.2 (io), 62 P0.7 (io), 63 P0.3 (io), 64 P0.4 (io)
part B pins: 5 VSSC (power) "Core Supply Ground", 6 VDDC (power) "Core Supply Monitor (2.5 V)", 7 VDDP (power) "I/O Port Supply", 25 VDDP (power) "I/O Port Supply", 26 VSSP (power) "I/O Ground", 31 VAGND (power) "ADC Reference Ground", 32 VAREF (power) "ADC Reference Voltage", 54 VSSP (power) "I/O Ground", 55 VDDP (power) "I/O Port Supply"